# Altium schematic symbol library WCAP-ATG8.SchLib: 195 symbols (part 1 of 4)
Pins are listed as number, name and electrical type; pins without a type are passive.

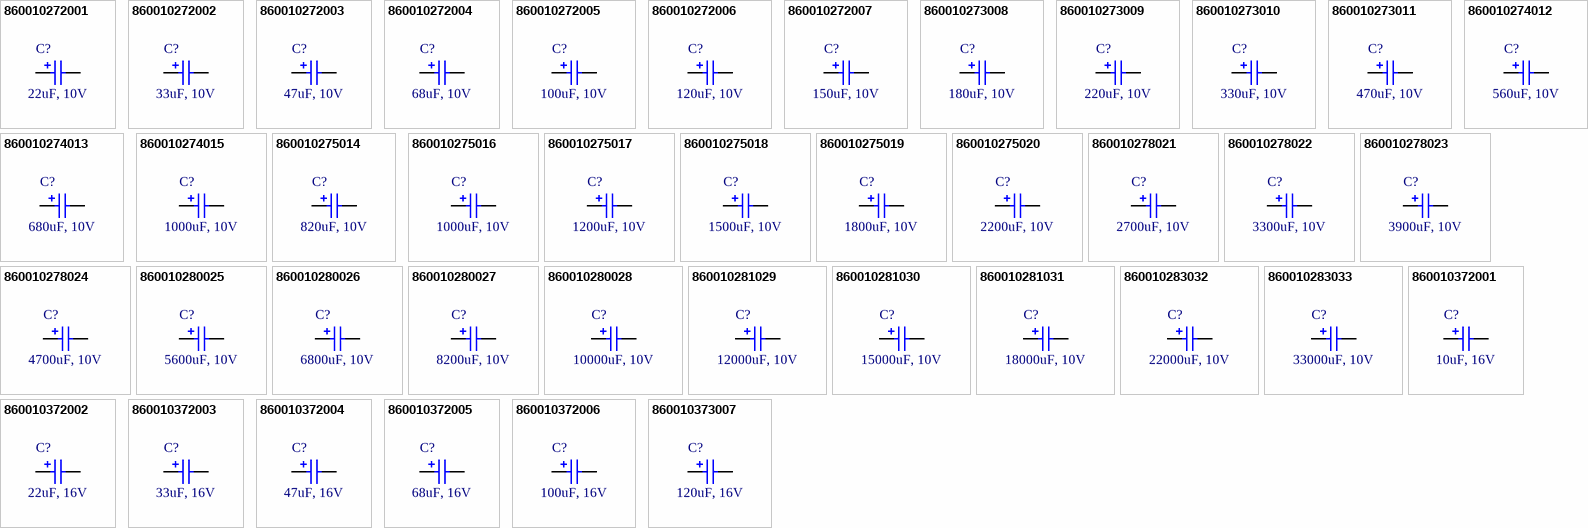
[diagram p0: symbols 860010272001 to 860010373007]

## 860010272001
designator C?, comment 22uF, 10V
WCAP-ATG8 Aluminum Electrolytic Capacitor, Radial, THT, D5xH11, 22uF, 10V; Manufacturer Part Number: 860010272001; Manufacturer: Wurth Elektronik; Ripple Current: 66mA; Rated Voltage: 10VDC; Technical Reference: ATBC110220M010DSPA3B000; Leakage Current: 3uA; Endurance: 2000h; Dissipation Factor: 19%; Capacitance Tolerance: +/-20%; ComponentLink2Description: Datasheet; Published Date: October 2020; Packaging: Ammo Pack; Operating Temperature: -40 to +85degC; Mounting Technology: THT; Height: 11mm; Diameter: 5mm; ComponentLink2URL: https://www.we-online.com/catalog/datasheet/860010272001.pdf; ComponentLink1URL: http://www.we-online.de; ComponentLink1Description: Manufacturer; Capacitance: 22uF
footprint WCAP-ATG8_D5H11
pins: 1 P, 2 N

## 860010272002
designator C?, comment 33uF, 10V
WCAP-ATG8 Aluminum Electrolytic Capacitor, Radial, THT, D5xH11, 33uF, 10V; Manufacturer Part Number: 860010272002; Manufacturer: Wurth Elektronik; Ripple Current: 88mA; Rated Voltage: 10VDC; Technical Reference: ATBC110330M010DSPA3B000; Leakage Current: 3.3uA; Endurance: 2000h; Dissipation Factor: 19%; Capacitance Tolerance: +/-20%; ComponentLink2Description: Datasheet; Published Date: October 2020; Packaging: Ammo Pack; Operating Temperature: -40 to +85degC; Mounting Technology: THT; Height: 11mm; Diameter: 5mm; ComponentLink2URL: https://www.we-online.com/catalog/datasheet/860010272002.pdf; ComponentLink1URL: http://www.we-online.de; ComponentLink1Description: Manufacturer; Capacitance: 33uF
footprint WCAP-ATG8_D5H11
pins: 1 P, 2 N

## 860010272003
designator C?, comment 47uF, 10V
WCAP-ATG8 Aluminum Electrolytic Capacitor, Radial, THT, D5xH11, 47uF, 10V; Manufacturer Part Number: 860010272003; Manufacturer: Wurth Elektronik; Ripple Current: 105mA; Rated Voltage: 10VDC; Technical Reference: ATBC110470M010DSPA3B000; Leakage Current: 4.7uA; Endurance: 2000h; Dissipation Factor: 19%; Capacitance Tolerance: +/-20%; ComponentLink2Description: Datasheet; Published Date: October 2020; Packaging: Ammo Pack; Operating Temperature: -40 to +85degC; Mounting Technology: THT; Height: 11mm; Diameter: 5mm; ComponentLink2URL: https://www.we-online.com/catalog/datasheet/860010272003.pdf; ComponentLink1URL: http://www.we-online.de; ComponentLink1Description: Manufacturer; Capacitance: 47uF
footprint WCAP-ATG8_D5H11
pins: 1 P, 2 N

## 860010272004
designator C?, comment 68uF, 10V
WCAP-ATG8 Aluminum Electrolytic Capacitor, Radial, THT, D5xH11, 68uF, 10V; Manufacturer Part Number: 860010272004; Manufacturer: Wurth Elektronik; Ripple Current: 132mA; Rated Voltage: 10VDC; Technical Reference: ATBC110680M010DSPA3B000; Leakage Current: 6.8uA; Endurance: 2000h; Dissipation Factor: 19%; Capacitance Tolerance: +/-20%; ComponentLink2Description: Datasheet; Published Date: October 2020; Packaging: Ammo Pack; Operating Temperature: -40 to +85degC; Mounting Technology: THT; Height: 11mm; Diameter: 5mm; ComponentLink2URL: https://www.we-online.com/catalog/datasheet/860010272004.pdf; ComponentLink1URL: http://www.we-online.de; ComponentLink1Description: Manufacturer; Capacitance: 68uF
footprint WCAP-ATG8_D5H11
pins: 1 P, 2 N

## 860010272005
designator C?, comment 100uF, 10V
WCAP-ATG8 Aluminum Electrolytic Capacitor, Radial, THT, D5xH11, 100uF, 10V; Manufacturer Part Number: 860010272005; Manufacturer: Wurth Elektronik; Ripple Current: 198mA; Rated Voltage: 10VDC; Technical Reference: ATBC110101M010DSPA3B000; Leakage Current: 10uA; Endurance: 2000h; Dissipation Factor: 19%; Capacitance Tolerance: +/-20%; ComponentLink2Description: Datasheet; Published Date: October 2020; Packaging: Ammo Pack; Operating Temperature: -40 to +85degC; Mounting Technology: THT; Height: 11mm; Diameter: 5mm; ComponentLink2URL: https://www.we-online.com/catalog/datasheet/860010272005.pdf; ComponentLink1URL: http://www.we-online.de; ComponentLink1Description: Manufacturer; Capacitance: 100uF
footprint WCAP-ATG8_D5H11
pins: 1 P, 2 N

## 860010272006
designator C?, comment 120uF, 10V
WCAP-ATG8 Aluminum Electrolytic Capacitor, Radial, THT, D5xH11, 120uF, 10V; Manufacturer Part Number: 860010272006; Manufacturer: Wurth Elektronik; Ripple Current: 209mA; Rated Voltage: 10VDC; Technical Reference: ATBC110121M010DSPA3B000; Leakage Current: 12uA; Endurance: 2000h; Dissipation Factor: 19%; Capacitance Tolerance: +/-20%; ComponentLink2Description: Datasheet; Published Date: October 2020; Packaging: Ammo Pack; Operating Temperature: -40 to +85degC; Mounting Technology: THT; Height: 11mm; Diameter: 5mm; ComponentLink2URL: https://www.we-online.com/catalog/datasheet/860010272006.pdf; ComponentLink1URL: http://www.we-online.de; ComponentLink1Description: Manufacturer; Capacitance: 120uF
footprint WCAP-ATG8_D5H11
pins: 1 P, 2 N

## 860010272007
designator C?, comment 150uF, 10V
WCAP-ATG8 Aluminum Electrolytic Capacitor, Radial, THT, D5xH11, 150uF, 10V; Manufacturer Part Number: 860010272007; Manufacturer: Wurth Elektronik; Ripple Current: 231mA; Rated Voltage: 10VDC; Technical Reference: ATBC110151M010DSPA3B000; Leakage Current: 15uA; Endurance: 2000h; Dissipation Factor: 19%; Capacitance Tolerance: +/-20%; ComponentLink2Description: Datasheet; Published Date: October 2020; Packaging: Ammo Pack; Operating Temperature: -40 to +85degC; Mounting Technology: THT; Height: 11mm; Diameter: 5mm; ComponentLink2URL: https://www.we-online.com/catalog/datasheet/860010272007.pdf; ComponentLink1URL: http://www.we-online.de; ComponentLink1Description: Manufacturer; Capacitance: 150uF
footprint WCAP-ATG8_D5H11
pins: 1 P, 2 N

## 860010273008
designator C?, comment 180uF, 10V
WCAP-ATG8 Aluminum Electrolytic Capacitor, Radial, THT, D6.3xH11, 180uF, 10V; Manufacturer Part Number: 860010273008; Manufacturer: Wurth Elektronik; Ripple Current: 253mA; Rated Voltage: 10VDC; Technical Reference: ATBD110181M010DSPA4B000; Leakage Current: 18uA; Endurance: 2000h; Dissipation Factor: 19%; Capacitance Tolerance: +/-20%; ComponentLink2Description: Datasheet; Published Date: October 2020; Packaging: Ammo Pack; Operating Temperature: -40 to +85degC; Mounting Technology: THT; Height: 11mm; Diameter: 6.3mm; ComponentLink2URL: https://www.we-online.com/catalog/datasheet/860010273008.pdf; ComponentLink1URL: http://www.we-online.de; ComponentLink1Description: Manufacturer; Capacitance: 180uF
footprint WCAP-ATG8_D6.3H11
pins: 1 P, 2 N

## 860010273009
designator C?, comment 220uF, 10V
WCAP-ATG8 Aluminum Electrolytic Capacitor, Radial, THT, D6.3xH11, 220uF, 10V; Manufacturer Part Number: 860010273009; Manufacturer: Wurth Elektronik; Ripple Current: 294mA; Rated Voltage: 10VDC; Technical Reference: ATBD110221M010DSPA4B000; Leakage Current: 22uA; Endurance: 2000h; Dissipation Factor: 19%; Capacitance Tolerance: +/-20%; ComponentLink2Description: Datasheet; Published Date: October 2020; Packaging: Ammo Pack; Operating Temperature: -40 to +85degC; Mounting Technology: THT; Height: 11mm; Diameter: 6.3mm; ComponentLink2URL: https://www.we-online.com/catalog/datasheet/860010273009.pdf; ComponentLink1URL: http://www.we-online.de; ComponentLink1Description: Manufacturer; Capacitance: 220uF
footprint WCAP-ATG8_D6.3H11
pins: 1 P, 2 N

## 860010273010
designator C?, comment 330uF, 10V
WCAP-ATG8 Aluminum Electrolytic Capacitor, Radial, THT, D6.3xH11, 330uF, 10V; Manufacturer Part Number: 860010273010; Manufacturer: Wurth Elektronik; Ripple Current: 363mA; Rated Voltage: 10VDC; Technical Reference: ATBD110331M010DSPA4B000; Leakage Current: 33uA; Endurance: 2000h; Dissipation Factor: 19%; Capacitance Tolerance: +/-20%; ComponentLink2Description: Datasheet; Published Date: October 2020; Packaging: Ammo Pack; Operating Temperature: -40 to +85degC; Mounting Technology: THT; Height: 11mm; Diameter: 6.3mm; ComponentLink2URL: https://www.we-online.com/catalog/datasheet/860010273010.pdf; ComponentLink1URL: http://www.we-online.de; ComponentLink1Description: Manufacturer; Capacitance: 330uF
footprint WCAP-ATG8_D6.3H11
pins: 1 P, 2 N

## 860010273011
designator C?, comment 470uF, 10V
WCAP-ATG8 Aluminum Electrolytic Capacitor, Radial, THT, D6.3xH11, 470uF, 10V; Manufacturer Part Number: 860010273011; Manufacturer: Wurth Elektronik; Ripple Current: 418mA; Rated Voltage: 10VDC; Technical Reference: ATBD110471M010DSPA4B000; Leakage Current: 47uA; Endurance: 2000h; Dissipation Factor: 19%; Capacitance Tolerance: +/-20%; ComponentLink2Description: Datasheet; Published Date: October 2020; Packaging: Ammo Pack; Operating Temperature: -40 to +85degC; Mounting Technology: THT; Height: 11mm; Diameter: 6.3mm; ComponentLink2URL: https://www.we-online.com/catalog/datasheet/860010273011.pdf; ComponentLink1URL: http://www.we-online.de; ComponentLink1Description: Manufacturer; Capacitance: 470uF
footprint WCAP-ATG8_D6.3H11
pins: 1 P, 2 N

## 860010274012
designator C?, comment 560uF, 10V
WCAP-ATG8 Aluminum Electrolytic Capacitor, Radial, THT, D8xH11.5, 560uF, 10V; Manufacturer Part Number: 860010274012; Manufacturer: Wurth Elektronik; Ripple Current: 506mA; Rated Voltage: 10VDC; Technical Reference: ATBE115561M010DSPA7B000; Leakage Current: 56uA; Endurance: 2000h; Dissipation Factor: 19%; Capacitance Tolerance: +/-20%; ComponentLink2Description: Datasheet; Published Date: October 2020; Packaging: Ammo Pack; Operating Temperature: -40 to +85degC; Mounting Technology: THT; Height: 11.5mm; Diameter: 8mm; ComponentLink2URL: https://www.we-online.com/catalog/datasheet/860010274012.pdf; ComponentLink1URL: http://www.we-online.de; ComponentLink1Description: Manufacturer; Capacitance: 560uF
footprint WCAP-ATG8_D8H11.5
pins: 1 P, 2 N

## 860010274013
designator C?, comment 680uF, 10V
WCAP-ATG8 Aluminum Electrolytic Capacitor, Radial, THT, D8xH11.5, 680uF, 10V; Manufacturer Part Number: 860010274013; Manufacturer: Wurth Elektronik; Ripple Current: 572mA; Rated Voltage: 10VDC; Technical Reference: ATBE115681M010DSPA7B000; Leakage Current: 68uA; Endurance: 2000h; Dissipation Factor: 19%; Capacitance Tolerance: +/-20%; ComponentLink2Description: Datasheet; Published Date: October 2020; Packaging: Ammo Pack; Operating Temperature: -40 to +85degC; Mounting Technology: THT; Height: 11.5mm; Diameter: 8mm; ComponentLink2URL: https://www.we-online.com/catalog/datasheet/860010274013.pdf; ComponentLink1URL: http://www.we-online.de; ComponentLink1Description: Manufacturer; Capacitance: 680uF
footprint WCAP-ATG8_D8H11.5
pins: 1 P, 2 N

## 860010274015
designator C?, comment 1000uF, 10V
WCAP-ATG8 Aluminum Electrolytic Capacitor, Radial, THT, D8xH16, 1000uF, 10V; Manufacturer Part Number: 860010274015; Manufacturer: Wurth Elektronik; Ripple Current: 725mA; Rated Voltage: 10VDC; Technical Reference: ATBE160102M010DSPA7B000; Leakage Current: 100uA; Endurance: 2000h; Dissipation Factor: 19%; Capacitance Tolerance: +/-20%; ComponentLink2Description: Datasheet; Published Date: October 2020; Packaging: Ammo Pack; Operating Temperature: -40 to +85degC; Mounting Technology: THT; Height: 16mm; Diameter: 8mm; ComponentLink2URL: https://www.we-online.com/catalog/datasheet/860010274015.pdf; ComponentLink1URL: http://www.we-online.de; ComponentLink1Description: Manufacturer; Capacitance: 1000uF
footprint WCAP-ATG8_D8H16
pins: 1 P, 2 N

## 860010275014
designator C?, comment 820uF, 10V
WCAP-ATG8 Aluminum Electrolytic Capacitor, Radial, THT, D10xH12.5, 820uF, 10V; Manufacturer Part Number: 860010275014; Manufacturer: Wurth Elektronik; Ripple Current: 671mA; Rated Voltage: 10VDC; Technical Reference: ATBF125821M010DSPA9B000; Leakage Current: 82uA; Endurance: 2000h; Dissipation Factor: 19%; Capacitance Tolerance: +/-20%; ComponentLink2Description: Datasheet; Published Date: October 2020; Packaging: Ammo Pack; Operating Temperature: -40 to +85degC; Mounting Technology: THT; Height: 12.5mm; Diameter: 10mm; ComponentLink2URL: https://www.we-online.com/catalog/datasheet/860010275014.pdf; ComponentLink1URL: http://www.we-online.de; ComponentLink1Description: Manufacturer; Capacitance: 820uF
footprint WCAP-ATG8_D10H12.5
pins: 1 P, 2 N

## 860010275016
designator C?, comment 1000uF, 10V
WCAP-ATG8 Aluminum Electrolytic Capacitor, Radial, THT, D10xH12.5, 1000uF, 10V; Manufacturer Part Number: 860010275016; Manufacturer: Wurth Elektronik; Ripple Current: 726mA; Rated Voltage: 10VDC; Technical Reference: ATBF125102M010DSPA9B000; Leakage Current: 100uA; Endurance: 2000h; Dissipation Factor: 19%; Capacitance Tolerance: +/-20%; ComponentLink2Description: Datasheet; Published Date: October 2020; Packaging: Ammo Pack; Operating Temperature: -40 to +85degC; Mounting Technology: THT; Height: 12.5mm; Diameter: 10mm; ComponentLink2URL: https://www.we-online.com/catalog/datasheet/860010275016.pdf; ComponentLink1URL: http://www.we-online.de; ComponentLink1Description: Manufacturer; Capacitance: 1000uF
footprint WCAP-ATG8_D10H12.5
pins: 1 P, 2 N

## 860010275017
designator C?, comment 1200uF, 10V
WCAP-ATG8 Aluminum Electrolytic Capacitor, Radial, THT, D10xH16, 1200uF, 10V; Manufacturer Part Number: 860010275017; Manufacturer: Wurth Elektronik; Ripple Current: 902mA; Rated Voltage: 10VDC; Technical Reference: ATBF160122M010DSPAAB000; Leakage Current: 120uA; Endurance: 2000h; Dissipation Factor: 19%; Capacitance Tolerance: +/-20%; ComponentLink2Description: Datasheet; Published Date: October 2020; Packaging: Ammo Pack; Operating Temperature: -40 to +85degC; Mounting Technology: THT; Height: 16mm; Diameter: 10mm; ComponentLink2URL: https://www.we-online.com/catalog/datasheet/860010275017.pdf; ComponentLink1URL: http://www.we-online.de; ComponentLink1Description: Manufacturer; Capacitance: 1200uF
footprint WCAP-ATG8_D10H16
pins: 1 P, 2 N

## 860010275018
designator C?, comment 1500uF, 10V
WCAP-ATG8 Aluminum Electrolytic Capacitor, Radial, THT, D10xH16, 1500uF, 10V; Manufacturer Part Number: 860010275018; Manufacturer: Wurth Elektronik; Ripple Current: 1001mA; Rated Voltage: 10VDC; Technical Reference: ATBF160152M010DSPAAB000; Leakage Current: 150uA; Endurance: 2000h; Dissipation Factor: 19%; Capacitance Tolerance: +/-20%; ComponentLink2Description: Datasheet; Published Date: October 2020; Packaging: Ammo Pack; Operating Temperature: -40 to +85degC; Mounting Technology: THT; Height: 16mm; Diameter: 10mm; ComponentLink2URL: https://www.we-online.com/catalog/datasheet/860010275018.pdf; ComponentLink1URL: http://www.we-online.de; ComponentLink1Description: Manufacturer; Capacitance: 1500uF
footprint WCAP-ATG8_D10H16
pins: 1 P, 2 N

## 860010275019
designator C?, comment 1800uF, 10V
WCAP-ATG8 Aluminum Electrolytic Capacitor, Radial, THT, D10xH20, 1800uF, 10V; Manufacturer Part Number: 860010275019; Manufacturer: Wurth Elektronik; Ripple Current: 1089mA; Rated Voltage: 10VDC; Technical Reference: ATBF200182M010DSPAAB000; Leakage Current: 180uA; Endurance: 2000h; Dissipation Factor: 19%; Capacitance Tolerance: +/-20%; ComponentLink2Description: Datasheet; Published Date: October 2020; Packaging: Ammo Pack; Operating Temperature: -40 to +85degC; Mounting Technology: THT; Height: 20mm; Diameter: 10mm; ComponentLink2URL: https://www.we-online.com/catalog/datasheet/860010275019.pdf; ComponentLink1URL: http://www.we-online.de; ComponentLink1Description: Manufacturer; Capacitance: 1800uF
footprint WCAP-ATG8_D10H20
pins: 1 P, 2 N

## 860010275020
designator C?, comment 2200uF, 10V
WCAP-ATG8 Aluminum Electrolytic Capacitor, Radial, THT, D10xH20, 2200uF, 10V; Manufacturer Part Number: 860010275020; Manufacturer: Wurth Elektronik; Ripple Current: 1210mA; Rated Voltage: 10VDC; Technical Reference: ATBF200222M010DSPAAB000; Leakage Current: 220uA; Endurance: 2000h; Dissipation Factor: 19%; Capacitance Tolerance: +/-20%; ComponentLink2Description: Datasheet; Published Date: October 2020; Packaging: Ammo Pack; Operating Temperature: -40 to +85degC; Mounting Technology: THT; Height: 20mm; Diameter: 10mm; ComponentLink2URL: https://www.we-online.com/catalog/datasheet/860010275020.pdf; ComponentLink1URL: http://www.we-online.de; ComponentLink1Description: Manufacturer; Capacitance: 2200uF
footprint WCAP-ATG8_D10H20
pins: 1 P, 2 N

## 860010278021
designator C?, comment 2700uF, 10V
WCAP-ATG8 Aluminum Electrolytic Capacitor, Radial, THT, D13xH20, 2700uF, 10V; Manufacturer Part Number: 860010278021; Manufacturer: Wurth Elektronik; Ripple Current: 1419mA; Rated Voltage: 10VDC; Technical Reference: ATBI200272M010DSPACB000; Leakage Current: 270uA; Endurance: 2000h; Dissipation Factor: 19%; Capacitance Tolerance: +/-20%; ComponentLink2Description: Datasheet; Published Date: October 2020; Packaging: Ammo Pack; Operating Temperature: -40 to +85degC; Mounting Technology: THT; Height: 20mm; Diameter: 13mm; ComponentLink2URL: https://www.we-online.com/catalog/datasheet/860010278021.pdf; ComponentLink1URL: http://www.we-online.de; ComponentLink1Description: Manufacturer; Capacitance: 2700uF
footprint WCAP-ATG8_D13H20
pins: 1 P, 2 N

## 860010278022
designator C?, comment 3300uF, 10V
WCAP-ATG8 Aluminum Electrolytic Capacitor, Radial, THT, D13xH20, 3300uF, 10V; Manufacturer Part Number: 860010278022; Manufacturer: Wurth Elektronik; Ripple Current: 1540mA; Rated Voltage: 10VDC; Technical Reference: ATBI200332M010DSPACB000; Leakage Current: 330uA; Endurance: 2000h; Dissipation Factor: 19%; Capacitance Tolerance: +/-20%; ComponentLink2Description: Datasheet; Published Date: October 2020; Packaging: Ammo Pack; Operating Temperature: -40 to +85degC; Mounting Technology: THT; Height: 20mm; Diameter: 13mm; ComponentLink2URL: https://www.we-online.com/catalog/datasheet/860010278022.pdf; ComponentLink1URL: http://www.we-online.de; ComponentLink1Description: Manufacturer; Capacitance: 3300uF
footprint WCAP-ATG8_D13H20
pins: 1 P, 2 N

## 860010278023
designator C?, comment 3900uF, 10V
WCAP-ATG8 Aluminum Electrolytic Capacitor, Radial, THT, D13xH20, 3900uF, 10V; Manufacturer Part Number: 860010278023; Manufacturer: Wurth Elektronik; Ripple Current: 1760mA; Rated Voltage: 10VDC; Technical Reference: ATBI200392M010DSPACB000; Leakage Current: 390uA; Endurance: 2000h; Dissipation Factor: 19%; Capacitance Tolerance: +/-20%; ComponentLink2Description: Datasheet; Published Date: October 2020; Packaging: Ammo Pack; Operating Temperature: -40 to +85degC; Mounting Technology: THT; Height: 20mm; Diameter: 13mm; ComponentLink2URL: https://www.we-online.com/catalog/datasheet/860010278023.pdf; ComponentLink1URL: http://www.we-online.de; ComponentLink1Description: Manufacturer; Capacitance: 3900uF
footprint WCAP-ATG8_D13H20
pins: 1 P, 2 N

## 860010278024
designator C?, comment 4700uF, 10V
WCAP-ATG8 Aluminum Electrolytic Capacitor, Radial, THT, D13xH25, 4700uF, 10V; Manufacturer Part Number: 860010278024; Manufacturer: Wurth Elektronik; Ripple Current: 1980mA; Rated Voltage: 10VDC; Technical Reference: ATBI250472M010DSPACB000; Leakage Current: 470uA; Endurance: 2000h; Dissipation Factor: 19%; Capacitance Tolerance: +/-20%; ComponentLink2Description: Datasheet; Published Date: October 2020; Packaging: Ammo Pack; Operating Temperature: -40 to +85degC; Mounting Technology: THT; Height: 25mm; Diameter: 13mm; ComponentLink2URL: https://www.we-online.com/catalog/datasheet/860010278024.pdf; ComponentLink1URL: http://www.we-online.de; ComponentLink1Description: Manufacturer; Capacitance: 4700uF
footprint WCAP-ATG8_D13H25
pins: 1 P, 2 N

## 860010280025
designator C?, comment 5600uF, 10V
WCAP-ATG8 Aluminum Electrolytic Capacitor, Radial, THT, D16xH25, 5600uF, 10V; Manufacturer Part Number: 860010280025; Manufacturer: Wurth Elektronik; Ripple Current: 2189mA; Rated Voltage: 10VDC; Technical Reference: ATBK250562M010DSPAEB000; Leakage Current: 560uA; Endurance: 2000h; Dissipation Factor: 19%; Capacitance Tolerance: +/-20%; ComponentLink2Description: Datasheet; Published Date: October 2020; Packaging: Ammo Pack; Operating Temperature: -40 to +85degC; Mounting Technology: THT; Height: 25mm; Diameter: 16mm; ComponentLink2URL: https://www.we-online.com/catalog/datasheet/860010280025.pdf; ComponentLink1URL: http://www.we-online.de; ComponentLink1Description: Manufacturer; Capacitance: 5600uF
footprint WCAP-ATG8_D16H25
pins: 1 P, 2 N

## 860010280026
designator C?, comment 6800uF, 10V
WCAP-ATG8 Aluminum Electrolytic Capacitor, Radial, THT, D16xH25, 6800uF, 10V; Manufacturer Part Number: 860010280026; Manufacturer: Wurth Elektronik; Ripple Current: 2475mA; Rated Voltage: 10VDC; Technical Reference: ATBK250682M010DSPAEB000; Leakage Current: 680uA; Endurance: 2000h; Dissipation Factor: 19%; Capacitance Tolerance: +/-20%; ComponentLink2Description: Datasheet; Published Date: October 2020; Packaging: Ammo Pack; Operating Temperature: -40 to +85degC; Mounting Technology: THT; Height: 25mm; Diameter: 16mm; ComponentLink2URL: https://www.we-online.com/catalog/datasheet/860010280026.pdf; ComponentLink1URL: http://www.we-online.de; ComponentLink1Description: Manufacturer; Capacitance: 6800uF
footprint WCAP-ATG8_D16H25
pins: 1 P, 2 N

## 860010280027
designator C?, comment 8200uF, 10V
WCAP-ATG8 Aluminum Electrolytic Capacitor, Radial, THT, D16xH31.5, 8200uF, 10V; Manufacturer Part Number: 860010280027; Manufacturer: Wurth Elektronik; Ripple Current: 2541mA; Rated Voltage: 10VDC; Technical Reference: ATBK315822M010DSPADB000; Leakage Current: 820uA; Endurance: 2000h; Dissipation Factor: 19%; Capacitance Tolerance: +/-20%; ComponentLink2Description: Datasheet; Published Date: October 2020; Packaging: Ammo Pack; Operating Temperature: -40 to +85degC; Mounting Technology: THT; Height: 31.5mm; Diameter: 16mm; ComponentLink2URL: https://www.we-online.com/catalog/datasheet/860010280027.pdf; ComponentLink1URL: http://www.we-online.de; ComponentLink1Description: Manufacturer; Capacitance: 8200uF
footprint WCAP-ATG8_D16H31.5
pins: 1 P, 2 N

## 860010280028
designator C?, comment 10000uF, 10V
WCAP-ATG8 Aluminum Electrolytic Capacitor, Radial, THT, D16xH35.5, 10000uF, 10V; Manufacturer Part Number: 860010280028; Manufacturer: Wurth Elektronik; Ripple Current: 2640mA; Rated Voltage: 10VDC; Technical Reference: ATBK355103M010DSPADB000; Leakage Current: 1000uA; Endurance: 2000h; Dissipation Factor: 19%; Capacitance Tolerance: +/-20%; ComponentLink2Description: Datasheet; Published Date: October 2020; Packaging: Ammo Pack; Operating Temperature: -40 to +85degC; Mounting Technology: THT; Height: 35.5mm; Diameter: 16mm; ComponentLink2URL: https://www.we-online.com/catalog/datasheet/860010280028.pdf; ComponentLink1URL: http://www.we-online.de; ComponentLink1Description: Manufacturer; Capacitance: 10000uF
footprint WCAP-ATG8_D16H35.5
pins: 1 P, 2 N

## 860010281029
designator C?, comment 12000uF, 10V
WCAP-ATG8 Aluminum Electrolytic Capacitor, Radial, THT, D18xH35.5, 12000uF, 10V; Manufacturer Part Number: 860010281029; Manufacturer: Wurth Elektronik; Ripple Current: 3025mA; Rated Voltage: 10VDC; Technical Reference: ATBL355123M010DSPAEB000; Leakage Current: 1200uA; Endurance: 2000h; Dissipation Factor: 19%; Capacitance Tolerance: +/-20%; ComponentLink2Description: Datasheet; Published Date: October 2020; Packaging: Ammo Pack; Operating Temperature: -40 to +85degC; Mounting Technology: THT; Height: 35.5mm; Diameter: 18mm; ComponentLink2URL: https://www.we-online.com/catalog/datasheet/860010281029.pdf; ComponentLink1URL: http://www.we-online.de; ComponentLink1Description: Manufacturer; Capacitance: 12000uF
footprint WCAP-ATG8_D18H35.5
pins: 1 P, 2 N

## 860010281030
designator C?, comment 15000uF, 10V
WCAP-ATG8 Aluminum Electrolytic Capacitor, Radial, THT, D18xH35.5, 15000uF, 10V; Manufacturer Part Number: 860010281030; Manufacturer: Wurth Elektronik; Ripple Current: 3310mA; Rated Voltage: 10VDC; Technical Reference: ATBL355153M010DSPAEB000; Leakage Current: 1500uA; Endurance: 2000h; Dissipation Factor: 19%; Capacitance Tolerance: +/-20%; ComponentLink2Description: Datasheet; Published Date: October 2020; Packaging: Ammo Pack; Operating Temperature: -40 to +85degC; Mounting Technology: THT; Height: 35.5mm; Diameter: 18mm; ComponentLink2URL: https://www.we-online.com/catalog/datasheet/860010281030.pdf; ComponentLink1URL: http://www.we-online.de; ComponentLink1Description: Manufacturer; Capacitance: 15000uF
footprint WCAP-ATG8_D18H35.5
pins: 1 P, 2 N

## 860010281031
designator C?, comment 18000uF, 10V
WCAP-ATG8 Aluminum Electrolytic Capacitor, Radial, THT, D18xH41, 18000uF, 10V; Manufacturer Part Number: 860010281031; Manufacturer: Wurth Elektronik; Ripple Current: 3410mA; Rated Voltage: 10VDC; Technical Reference: ATBL410183M010DSPS1B000; Leakage Current: 1800uA; Endurance: 2000h; Dissipation Factor: 19%; Capacitance Tolerance: +/-20%; ComponentLink2Description: Datasheet; Published Date: October 2020; Packaging: Ammo Pack; Operating Temperature: -40 to +85degC; Mounting Technology: THT; Height: 41mm; Diameter: 18mm; ComponentLink2URL: https://www.we-online.com/catalog/datasheet/860010281031.pdf; ComponentLink1URL: http://www.we-online.de; ComponentLink1Description: Manufacturer; Capacitance: 18000uF
footprint WCAP-ATG8_D18H41
pins: 1 P, 2 N

## 860010283032
designator C?, comment 22000uF, 10V
WCAP-ATG8 Aluminum Electrolytic Capacitor, Radial, THT, D22xH41, 22000uF, 10V; Manufacturer Part Number: 860010283032; Manufacturer: Wurth Elektronik; Ripple Current: 4092mA; Rated Voltage: 10VDC; Technical Reference: ATBN410223M010DSPS2B000; Leakage Current: 2200uA; Endurance: 2000h; Dissipation Factor: 19%; Capacitance Tolerance: +/-20%; ComponentLink2Description: Datasheet; Published Date: October 2020; Packaging: Ammo Pack; Operating Temperature: -40 to +85degC; Mounting Technology: THT; Height: 41mm; Diameter: 22mm; ComponentLink2URL: https://www.we-online.com/catalog/datasheet/860010283032.pdf; ComponentLink1URL: http://www.we-online.de; ComponentLink1Description: Manufacturer; Capacitance: 22000uF
footprint WCAP-ATG8_D22H41
pins: 1 P, 2 N

## 860010283033
designator C?, comment 33000uF, 10V
WCAP-ATG8 Aluminum Electrolytic Capacitor, Radial, THT, D22xH51, 33000uF, 10V; Manufacturer Part Number: 860010283033; Manufacturer: Wurth Elektronik; Ripple Current: 4620mA; Rated Voltage: 10VDC; Technical Reference: ATBN510333M010DSPS2B000; Leakage Current: 3300uA; Endurance: 2000h; Dissipation Factor: 19%; Capacitance Tolerance: +/-20%; ComponentLink2Description: Datasheet; Published Date: October 2020; Packaging: Ammo Pack; Operating Temperature: -40 to +85degC; Mounting Technology: THT; Height: 51mm; Diameter: 22mm; ComponentLink2URL: https://www.we-online.com/catalog/datasheet/860010283033.pdf; ComponentLink1URL: http://www.we-online.de; ComponentLink1Description: Manufacturer; Capacitance: 33000uF
footprint WCAP-ATG8_D22H51
pins: 1 P, 2 N

## 860010372001
designator C?, comment 10uF, 16V
WCAP-ATG8 Aluminum Electrolytic Capacitor, Radial, THT, D5xH11, 10uF, 16V; Manufacturer Part Number: 860010372001; Manufacturer: Wurth Elektronik; Ripple Current: 44mA; Rated Voltage: 16VDC; Technical Reference: ATBC110100M016DSPA3B000; Leakage Current: 3uA; Endurance: 2000h; Dissipation Factor: 16%; Capacitance Tolerance: +/-20%; ComponentLink2Description: Datasheet; Published Date: October 2020; Packaging: Ammo Pack; Operating Temperature: -40 to +85degC; Mounting Technology: THT; Height: 11mm; Diameter: 5mm; ComponentLink2URL: https://www.we-online.com/catalog/datasheet/860010372001.pdf; ComponentLink1URL: http://www.we-online.de; ComponentLink1Description: Manufacturer; Capacitance: 10uF
footprint WCAP-ATG8_D5H11
pins: 1 P, 2 N

## 860010372002
designator C?, comment 22uF, 16V
WCAP-ATG8 Aluminum Electrolytic Capacitor, Radial, THT, D5xH11, 22uF, 16V; Manufacturer Part Number: 860010372002; Manufacturer: Wurth Elektronik; Ripple Current: 83mA; Rated Voltage: 16VDC; Technical Reference: ATBC110220M016DSPA3B000; Leakage Current: 3.52uA; Endurance: 2000h; Dissipation Factor: 16%; Capacitance Tolerance: +/-20%; ComponentLink2Description: Datasheet; Published Date: October 2020; Packaging: Ammo Pack; Operating Temperature: -40 to +85degC; Mounting Technology: THT; Height: 11mm; Diameter: 5mm; ComponentLink2URL: https://www.we-online.com/catalog/datasheet/860010372002.pdf; ComponentLink1URL: http://www.we-online.de; ComponentLink1Description: Manufacturer; Capacitance: 22uF
footprint WCAP-ATG8_D5H11
pins: 1 P, 2 N

## 860010372003
designator C?, comment 33uF, 16V
WCAP-ATG8 Aluminum Electrolytic Capacitor, Radial, THT, D5xH11, 33uF, 16V; Manufacturer Part Number: 860010372003; Manufacturer: Wurth Elektronik; Ripple Current: 84mA; Rated Voltage: 16VDC; Technical Reference: ATBC110330M016DSPA3B000; Leakage Current: 5.28uA; Endurance: 2000h; Dissipation Factor: 16%; Capacitance Tolerance: +/-20%; ComponentLink2Description: Datasheet; Published Date: October 2020; Packaging: Ammo Pack; Operating Temperature: -40 to +85degC; Mounting Technology: THT; Height: 11mm; Diameter: 5mm; ComponentLink2URL: https://www.we-online.com/catalog/datasheet/860010372003.pdf; ComponentLink1URL: http://www.we-online.de; ComponentLink1Description: Manufacturer; Capacitance: 33uF
footprint WCAP-ATG8_D5H11
pins: 1 P, 2 N

## 860010372004
designator C?, comment 47uF, 16V
WCAP-ATG8 Aluminum Electrolytic Capacitor, Radial, THT, D5xH11, 47uF, 16V; Manufacturer Part Number: 860010372004; Manufacturer: Wurth Elektronik; Ripple Current: 132mA; Rated Voltage: 16VDC; Technical Reference: ATBC110470M016DSPA3B000; Leakage Current: 7.52uA; Endurance: 2000h; Dissipation Factor: 16%; Capacitance Tolerance: +/-20%; ComponentLink2Description: Datasheet; Published Date: October 2020; Packaging: Ammo Pack; Operating Temperature: -40 to +85degC; Mounting Technology: THT; Height: 11mm; Diameter: 5mm; ComponentLink2URL: https://www.we-online.com/catalog/datasheet/860010372004.pdf; ComponentLink1URL: http://www.we-online.de; ComponentLink1Description: Manufacturer; Capacitance: 47uF
footprint WCAP-ATG8_D5H11
pins: 1 P, 2 N

## 860010372005
designator C?, comment 68uF, 16V
WCAP-ATG8 Aluminum Electrolytic Capacitor, Radial, THT, D5xH11, 68uF, 16V; Manufacturer Part Number: 860010372005; Manufacturer: Wurth Elektronik; Ripple Current: 149mA; Rated Voltage: 16VDC; Technical Reference: ATBC110680M016DSPA3B000; Leakage Current: 10.88uA; Endurance: 2000h; Dissipation Factor: 16%; Capacitance Tolerance: +/-20%; ComponentLink2Description: Datasheet; Published Date: October 2020; Packaging: Ammo Pack; Operating Temperature: -40 to +85degC; Mounting Technology: THT; Height: 11mm; Diameter: 5mm; ComponentLink2URL: https://www.we-online.com/catalog/datasheet/860010372005.pdf; ComponentLink1URL: http://www.we-online.de; ComponentLink1Description: Manufacturer; Capacitance: 68uF
footprint WCAP-ATG8_D5H11
pins: 1 P, 2 N

## 860010372006
designator C?, comment 100uF, 16V
WCAP-ATG8 Aluminum Electrolytic Capacitor, Radial, THT, D5xH11, 100uF, 16V; Manufacturer Part Number: 860010372006; Manufacturer: Wurth Elektronik; Ripple Current: 176mA; Rated Voltage: 16VDC; Technical Reference: ATBC110101M016DSPA3B000; Leakage Current: 16uA; Endurance: 2000h; Dissipation Factor: 16%; Capacitance Tolerance: +/-20%; ComponentLink2Description: Datasheet; Published Date: October 2020; Packaging: Ammo Pack; Operating Temperature: -40 to +85degC; Mounting Technology: THT; Height: 11mm; Diameter: 5mm; ComponentLink2URL: https://www.we-online.com/catalog/datasheet/860010372006.pdf; ComponentLink1URL: http://www.we-online.de; ComponentLink1Description: Manufacturer; Capacitance: 100uF
footprint WCAP-ATG8_D5H11
pins: 1 P, 2 N

## 860010373007
designator C?, comment 120uF, 16V
WCAP-ATG8 Aluminum Electrolytic Capacitor, Radial, THT, D6.3xH11, 120uF, 16V; Manufacturer Part Number: 860010373007; Manufacturer: Wurth Elektronik; Ripple Current: 231mA; Rated Voltage: 16VDC; Technical Reference: ATBD110121M016DSPA4B000; Leakage Current: 19.2uA; Endurance: 2000h; Dissipation Factor: 16%; Capacitance Tolerance: +/-20%; ComponentLink2Description: Datasheet; Published Date: October 2020; Packaging: Ammo Pack; Operating Temperature: -40 to +85degC; Mounting Technology: THT; Height: 11mm; Diameter: 6.3mm; ComponentLink2URL: https://www.we-online.com/catalog/datasheet/860010373007.pdf; ComponentLink1URL: http://www.we-online.de; ComponentLink1Description: Manufacturer; Capacitance: 120uF
footprint WCAP-ATG8_D6.3H11
pins: 1 P, 2 N

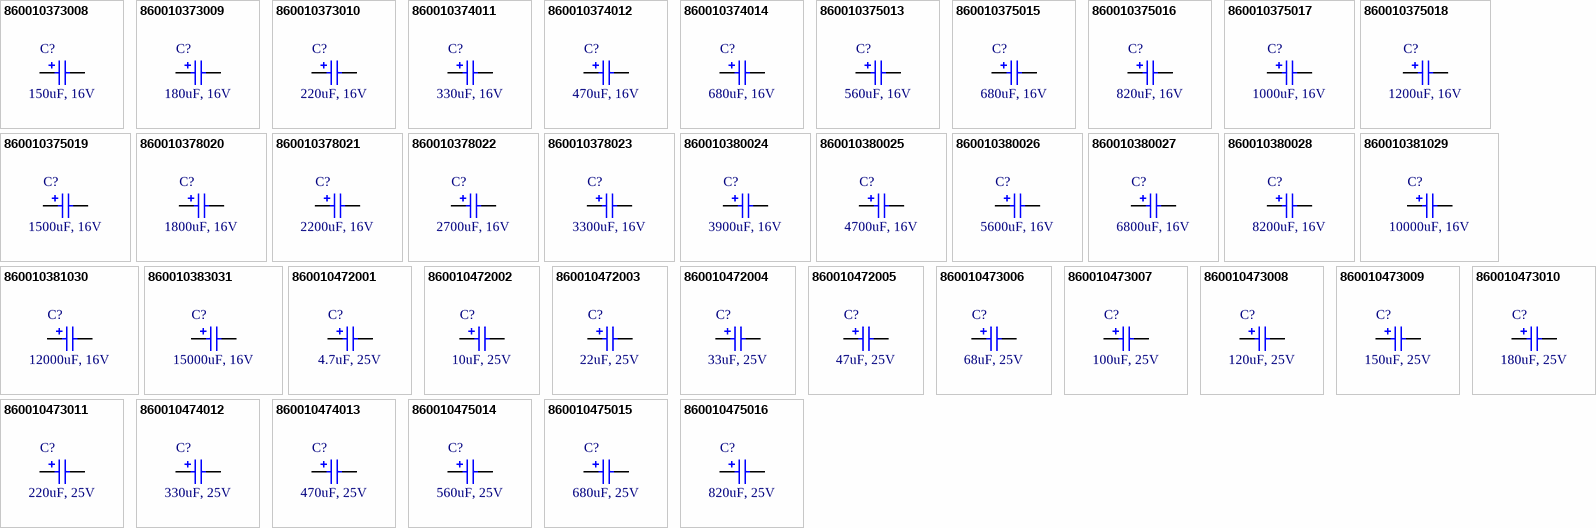
[diagram p1: symbols 860010373008 to 860010475016]

## 860010373008
designator C?, comment 150uF, 16V
WCAP-ATG8 Aluminum Electrolytic Capacitor, Radial, THT, D6.3xH11, 150uF, 16V; Manufacturer Part Number: 860010373008; Manufacturer: Wurth Elektronik; Ripple Current: 253mA; Rated Voltage: 16VDC; Technical Reference: ATBD110151M016DSPA4B000; Leakage Current: 24uA; Endurance: 2000h; Dissipation Factor: 16%; Capacitance Tolerance: +/-20%; ComponentLink2Description: Datasheet; Published Date: October 2020; Packaging: Ammo Pack; Operating Temperature: -40 to +85degC; Mounting Technology: THT; Height: 11mm; Diameter: 6.3mm; ComponentLink2URL: https://www.we-online.com/catalog/datasheet/860010373008.pdf; ComponentLink1URL: http://www.we-online.de; ComponentLink1Description: Manufacturer; Capacitance: 150uF
footprint WCAP-ATG8_D6.3H11
pins: 1 P, 2 N

## 860010373009
designator C?, comment 180uF, 16V
WCAP-ATG8 Aluminum Electrolytic Capacitor, Radial, THT, D6.3xH11, 180uF, 16V; Manufacturer Part Number: 860010373009; Manufacturer: Wurth Elektronik; Ripple Current: 275mA; Rated Voltage: 16VDC; Technical Reference: ATBD110181M016DSPA4B000; Leakage Current: 28.8uA; Endurance: 2000h; Dissipation Factor: 16%; Capacitance Tolerance: +/-20%; ComponentLink2Description: Datasheet; Published Date: October 2020; Packaging: Ammo Pack; Operating Temperature: -40 to +85degC; Mounting Technology: THT; Height: 11mm; Diameter: 6.3mm; ComponentLink2URL: https://www.we-online.com/catalog/datasheet/860010373009.pdf; ComponentLink1URL: http://www.we-online.de; ComponentLink1Description: Manufacturer; Capacitance: 180uF
footprint WCAP-ATG8_D6.3H11
pins: 1 P, 2 N

## 860010373010
designator C?, comment 220uF, 16V
WCAP-ATG8 Aluminum Electrolytic Capacitor, Radial, THT, D6.3xH11, 220uF, 16V; Manufacturer Part Number: 860010373010; Manufacturer: Wurth Elektronik; Ripple Current: 308mA; Rated Voltage: 16VDC; Technical Reference: ATBD110221M016DSPA4B000; Leakage Current: 35.2uA; Endurance: 2000h; Dissipation Factor: 16%; Capacitance Tolerance: +/-20%; ComponentLink2Description: Datasheet; Published Date: October 2020; Packaging: Ammo Pack; Operating Temperature: -40 to +85degC; Mounting Technology: THT; Height: 11mm; Diameter: 6.3mm; ComponentLink2URL: https://www.we-online.com/catalog/datasheet/860010373010.pdf; ComponentLink1URL: http://www.we-online.de; ComponentLink1Description: Manufacturer; Capacitance: 220uF
footprint WCAP-ATG8_D6.3H11
pins: 1 P, 2 N

## 860010374011
designator C?, comment 330uF, 16V
WCAP-ATG8 Aluminum Electrolytic Capacitor, Radial, THT, D8xH11.5, 330uF, 16V; Manufacturer Part Number: 860010374011; Manufacturer: Wurth Elektronik; Ripple Current: 407mA; Rated Voltage: 16VDC; Technical Reference: ATBE115331M016DSPA7B000; Leakage Current: 52.8uA; Endurance: 2000h; Dissipation Factor: 16%; Capacitance Tolerance: +/-20%; ComponentLink2Description: Datasheet; Published Date: October 2020; Packaging: Ammo Pack; Operating Temperature: -40 to +85degC; Mounting Technology: THT; Height: 11.5mm; Diameter: 8mm; ComponentLink2URL: https://www.we-online.com/catalog/datasheet/860010374011.pdf; ComponentLink1URL: http://www.we-online.de; ComponentLink1Description: Manufacturer; Capacitance: 330uF
footprint WCAP-ATG8_D8H11.5
pins: 1 P, 2 N

## 860010374012
designator C?, comment 470uF, 16V
WCAP-ATG8 Aluminum Electrolytic Capacitor, Radial, THT, D8xH11.5, 470uF, 16V; Manufacturer Part Number: 860010374012; Manufacturer: Wurth Elektronik; Ripple Current: 517mA; Rated Voltage: 16VDC; Technical Reference: ATBE115471M016DSPA7B000; Leakage Current: 75.2uA; Endurance: 2000h; Dissipation Factor: 16%; Capacitance Tolerance: +/-20%; ComponentLink2Description: Datasheet; Published Date: October 2020; Packaging: Ammo Pack; Operating Temperature: -40 to +85degC; Mounting Technology: THT; Height: 11.5mm; Diameter: 8mm; ComponentLink2URL: https://www.we-online.com/catalog/datasheet/860010374012.pdf; ComponentLink1URL: http://www.we-online.de; ComponentLink1Description: Manufacturer; Capacitance: 470uF
footprint WCAP-ATG8_D8H11.5
pins: 1 P, 2 N

## 860010374014
designator C?, comment 680uF, 16V
WCAP-ATG8 Aluminum Electrolytic Capacitor, Radial, THT, D8xH16, 680uF, 16V; Manufacturer Part Number: 860010374014; Manufacturer: Wurth Elektronik; Ripple Current: 640mA; Rated Voltage: 16VDC; Technical Reference: ATBE160681M016DSPA7B000; Leakage Current: 108.8uA; Endurance: 2000h; Dissipation Factor: 16%; Capacitance Tolerance: +/-20%; ComponentLink2Description: Datasheet; Published Date: October 2020; Packaging: Ammo Pack; Operating Temperature: -40 to +85degC; Mounting Technology: THT; Height: 16mm; Diameter: 8mm; ComponentLink2URL: https://www.we-online.com/catalog/datasheet/860010374014.pdf; ComponentLink1URL: http://www.we-online.de; ComponentLink1Description: Manufacturer; Capacitance: 680uF
footprint WCAP-ATG8_D8H16
pins: 1 P, 2 N

## 860010375013
designator C?, comment 560uF, 16V
WCAP-ATG8 Aluminum Electrolytic Capacitor, Radial, THT, D10xH12.5, 560uF, 16V; Manufacturer Part Number: 860010375013; Manufacturer: Wurth Elektronik; Ripple Current: 572mA; Rated Voltage: 16VDC; Technical Reference: ATBF125561M016DSPA9B000; Leakage Current: 89.6uA; Endurance: 2000h; Dissipation Factor: 16%; Capacitance Tolerance: +/-20%; ComponentLink2Description: Datasheet; Published Date: October 2020; Packaging: Ammo Pack; Operating Temperature: -40 to +85degC; Mounting Technology: THT; Height: 12.5mm; Diameter: 10mm; ComponentLink2URL: https://www.we-online.com/catalog/datasheet/860010375013.pdf; ComponentLink1URL: http://www.we-online.de; ComponentLink1Description: Manufacturer; Capacitance: 560uF
footprint WCAP-ATG8_D10H12.5
pins: 1 P, 2 N

## 860010375015
designator C?, comment 680uF, 16V
WCAP-ATG8 Aluminum Electrolytic Capacitor, Radial, THT, D10xH12.5, 680uF, 16V; Manufacturer Part Number: 860010375015; Manufacturer: Wurth Elektronik; Ripple Current: 682mA; Rated Voltage: 16VDC; Technical Reference: ATBF125681M016DSPA9B000; Leakage Current: 108.8uA; Endurance: 2000h; Dissipation Factor: 16%; Capacitance Tolerance: +/-20%; ComponentLink2Description: Datasheet; Published Date: October 2020; Packaging: Ammo Pack; Operating Temperature: -40 to +85degC; Mounting Technology: THT; Height: 12.5mm; Diameter: 10mm; ComponentLink2URL: https://www.we-online.com/catalog/datasheet/860010375015.pdf; ComponentLink1URL: http://www.we-online.de; ComponentLink1Description: Manufacturer; Capacitance: 680uF
footprint WCAP-ATG8_D10H12.5
pins: 1 P, 2 N

## 860010375016
designator C?, comment 820uF, 16V
WCAP-ATG8 Aluminum Electrolytic Capacitor, Radial, THT, D10xH16, 820uF, 16V; Manufacturer Part Number: 860010375016; Manufacturer: Wurth Elektronik; Ripple Current: 803mA; Rated Voltage: 16VDC; Technical Reference: ATBF160821M016DSPAAB000; Leakage Current: 131.2uA; Endurance: 2000h; Dissipation Factor: 16%; Capacitance Tolerance: +/-20%; ComponentLink2Description: Datasheet; Published Date: October 2020; Packaging: Ammo Pack; Operating Temperature: -40 to +85degC; Mounting Technology: THT; Height: 16mm; Diameter: 10mm; ComponentLink2URL: https://www.we-online.com/catalog/datasheet/860010375016.pdf; ComponentLink1URL: http://www.we-online.de; ComponentLink1Description: Manufacturer; Capacitance: 820uF
footprint WCAP-ATG8_D10H16
pins: 1 P, 2 N

## 860010375017
designator C?, comment 1000uF, 16V
WCAP-ATG8 Aluminum Electrolytic Capacitor, Radial, THT, D10xH16, 1000uF, 16V; Manufacturer Part Number: 860010375017; Manufacturer: Wurth Elektronik; Ripple Current: 869mA; Rated Voltage: 16VDC; Technical Reference: ATBF160102M016DSPAAB000; Leakage Current: 160uA; Endurance: 2000h; Dissipation Factor: 16%; Capacitance Tolerance: +/-20%; ComponentLink2Description: Datasheet; Published Date: October 2020; Packaging: Ammo Pack; Operating Temperature: -40 to +85degC; Mounting Technology: THT; Height: 16mm; Diameter: 10mm; ComponentLink2URL: https://www.we-online.com/catalog/datasheet/860010375017.pdf; ComponentLink1URL: http://www.we-online.de; ComponentLink1Description: Manufacturer; Capacitance: 1000uF
footprint WCAP-ATG8_D10H16
pins: 1 P, 2 N

## 860010375018
designator C?, comment 1200uF, 16V
WCAP-ATG8 Aluminum Electrolytic Capacitor, Radial, THT, D10xH16, 1200uF, 16V; Manufacturer Part Number: 860010375018; Manufacturer: Wurth Elektronik; Ripple Current: 979mA; Rated Voltage: 16VDC; Technical Reference: ATBF160122M016DSPAAB000; Leakage Current: 192uA; Endurance: 2000h; Dissipation Factor: 16%; Capacitance Tolerance: +/-20%; ComponentLink2Description: Datasheet; Published Date: October 2020; Packaging: Ammo Pack; Operating Temperature: -40 to +85degC; Mounting Technology: THT; Height: 16mm; Diameter: 10mm; ComponentLink2URL: https://www.we-online.com/catalog/datasheet/860010375018.pdf; ComponentLink1URL: http://www.we-online.de; ComponentLink1Description: Manufacturer; Capacitance: 1200uF
footprint WCAP-ATG8_D10H16
pins: 1 P, 2 N

## 860010375019
designator C?, comment 1500uF, 16V
WCAP-ATG8 Aluminum Electrolytic Capacitor, Radial, THT, D10xH20, 1500uF, 16V; Manufacturer Part Number: 860010375019; Manufacturer: Wurth Elektronik; Ripple Current: 1100mA; Rated Voltage: 16VDC; Technical Reference: ATBF200152M016DSPAAB000; Leakage Current: 240uA; Endurance: 2000h; Dissipation Factor: 16%; Capacitance Tolerance: +/-20%; ComponentLink2Description: Datasheet; Published Date: October 2020; Packaging: Ammo Pack; Operating Temperature: -40 to +85degC; Mounting Technology: THT; Height: 20mm; Diameter: 10mm; ComponentLink2URL: https://www.we-online.com/catalog/datasheet/860010375019.pdf; ComponentLink1URL: http://www.we-online.de; ComponentLink1Description: Manufacturer; Capacitance: 1500uF
footprint WCAP-ATG8_D10H20
pins: 1 P, 2 N

## 860010378020
designator C?, comment 1800uF, 16V
WCAP-ATG8 Aluminum Electrolytic Capacitor, Radial, THT, D13xH20, 1800uF, 16V; Manufacturer Part Number: 860010378020; Manufacturer: Wurth Elektronik; Ripple Current: 1298mA; Rated Voltage: 16VDC; Technical Reference: ATBI200182M016DSPACB000; Leakage Current: 288uA; Endurance: 2000h; Dissipation Factor: 16%; Capacitance Tolerance: +/-20%; ComponentLink2Description: Datasheet; Published Date: October 2020; Packaging: Ammo Pack; Operating Temperature: -40 to +85degC; Mounting Technology: THT; Height: 20mm; Diameter: 13mm; ComponentLink2URL: https://www.we-online.com/catalog/datasheet/860010378020.pdf; ComponentLink1URL: http://www.we-online.de; ComponentLink1Description: Manufacturer; Capacitance: 1800uF
footprint WCAP-ATG8_D13H20
pins: 1 P, 2 N

## 860010378021
designator C?, comment 2200uF, 16V
WCAP-ATG8 Aluminum Electrolytic Capacitor, Radial, THT, D13xH20, 2200uF, 16V; Manufacturer Part Number: 860010378021; Manufacturer: Wurth Elektronik; Ripple Current: 1485mA; Rated Voltage: 16VDC; Technical Reference: ATBI200222M016DSPACB000; Leakage Current: 352uA; Endurance: 2000h; Dissipation Factor: 16%; Capacitance Tolerance: +/-20%; ComponentLink2Description: Datasheet; Published Date: October 2020; Packaging: Ammo Pack; Operating Temperature: -40 to +85degC; Mounting Technology: THT; Height: 20mm; Diameter: 13mm; ComponentLink2URL: https://www.we-online.com/catalog/datasheet/860010378021.pdf; ComponentLink1URL: http://www.we-online.de; ComponentLink1Description: Manufacturer; Capacitance: 2200uF
footprint WCAP-ATG8_D13H20
pins: 1 P, 2 N

## 860010378022
designator C?, comment 2700uF, 16V
WCAP-ATG8 Aluminum Electrolytic Capacitor, Radial, THT, D13xH20, 2700uF, 16V; Manufacturer Part Number: 860010378022; Manufacturer: Wurth Elektronik; Ripple Current: 1716mA; Rated Voltage: 16VDC; Technical Reference: ATBI200272M016DSPACB000; Leakage Current: 432uA; Endurance: 2000h; Dissipation Factor: 16%; Capacitance Tolerance: +/-20%; ComponentLink2Description: Datasheet; Published Date: October 2020; Packaging: Ammo Pack; Operating Temperature: -40 to +85degC; Mounting Technology: THT; Height: 20mm; Diameter: 13mm; ComponentLink2URL: https://www.we-online.com/catalog/datasheet/860010378022.pdf; ComponentLink1URL: http://www.we-online.de; ComponentLink1Description: Manufacturer; Capacitance: 2700uF
footprint WCAP-ATG8_D13H20
pins: 1 P, 2 N

## 860010378023
designator C?, comment 3300uF, 16V
WCAP-ATG8 Aluminum Electrolytic Capacitor, Radial, THT, D13xH20, 3300uF, 16V; Manufacturer Part Number: 860010378023; Manufacturer: Wurth Elektronik; Ripple Current: 1750mA; Rated Voltage: 16VDC; Technical Reference: ATBI200332M016DSPACB000; Leakage Current: 528uA; Endurance: 2000h; Dissipation Factor: 16%; Capacitance Tolerance: +/-20%; ComponentLink2Description: Datasheet; Published Date: October 2020; Packaging: Ammo Pack; Operating Temperature: -40 to +85degC; Mounting Technology: THT; Height: 20mm; Diameter: 13mm; ComponentLink2URL: https://www.we-online.com/catalog/datasheet/860010378023.pdf; ComponentLink1URL: http://www.we-online.de; ComponentLink1Description: Manufacturer; Capacitance: 3300uF
footprint WCAP-ATG8_D13H20
pins: 1 P, 2 N

## 860010380024
designator C?, comment 3900uF, 16V
WCAP-ATG8 Aluminum Electrolytic Capacitor, Radial, THT, D16xH25, 3900uF, 16V; Manufacturer Part Number: 860010380024; Manufacturer: Wurth Elektronik; Ripple Current: 2002mA; Rated Voltage: 16VDC; Technical Reference: ATBK250392M016DSPAEB000; Leakage Current: 624uA; Endurance: 2000h; Dissipation Factor: 16%; Capacitance Tolerance: +/-20%; ComponentLink2Description: Datasheet; Published Date: October 2020; Packaging: Ammo Pack; Operating Temperature: -40 to +85degC; Mounting Technology: THT; Height: 25mm; Diameter: 16mm; ComponentLink2URL: https://www.we-online.com/catalog/datasheet/860010380024.pdf; ComponentLink1URL: http://www.we-online.de; ComponentLink1Description: Manufacturer; Capacitance: 3900uF
footprint WCAP-ATG8_D16H25
pins: 1 P, 2 N

## 860010380025
designator C?, comment 4700uF, 16V
WCAP-ATG8 Aluminum Electrolytic Capacitor, Radial, THT, D16xH25, 4700uF, 16V; Manufacturer Part Number: 860010380025; Manufacturer: Wurth Elektronik; Ripple Current: 2310mA; Rated Voltage: 16VDC; Technical Reference: ATBK250472M016DSPAEB000; Leakage Current: 752uA; Endurance: 2000h; Dissipation Factor: 16%; Capacitance Tolerance: +/-20%; ComponentLink2Description: Datasheet; Published Date: October 2020; Packaging: Ammo Pack; Operating Temperature: -40 to +85degC; Mounting Technology: THT; Height: 25mm; Diameter: 16mm; ComponentLink2URL: https://www.we-online.com/catalog/datasheet/860010380025.pdf; ComponentLink1URL: http://www.we-online.de; ComponentLink1Description: Manufacturer; Capacitance: 4700uF
footprint WCAP-ATG8_D16H25
pins: 1 P, 2 N

## 860010380026
designator C?, comment 5600uF, 16V
WCAP-ATG8 Aluminum Electrolytic Capacitor, Radial, THT, D16xH31.5, 5600uF, 16V; Manufacturer Part Number: 860010380026; Manufacturer: Wurth Elektronik; Ripple Current: 2453mA; Rated Voltage: 16VDC; Technical Reference: ATBK315562M016DSPADB000; Leakage Current: 896uA; Endurance: 2000h; Dissipation Factor: 16%; Capacitance Tolerance: +/-20%; ComponentLink2Description: Datasheet; Published Date: October 2020; Packaging: Ammo Pack; Operating Temperature: -40 to +85degC; Mounting Technology: THT; Height: 31.5mm; Diameter: 16mm; ComponentLink2URL: https://www.we-online.com/catalog/datasheet/860010380026.pdf; ComponentLink1URL: http://www.we-online.de; ComponentLink1Description: Manufacturer; Capacitance: 5600uF
footprint WCAP-ATG8_D16H31.5
pins: 1 P, 2 N

## 860010380027
designator C?, comment 6800uF, 16V
WCAP-ATG8 Aluminum Electrolytic Capacitor, Radial, THT, D16xH31.5, 6800uF, 16V; Manufacturer Part Number: 860010380027; Manufacturer: Wurth Elektronik; Ripple Current: 2805mA; Rated Voltage: 16VDC; Technical Reference: ATBK315682M016DSPADB000; Leakage Current: 1088uA; Endurance: 2000h; Dissipation Factor: 16%; Capacitance Tolerance: +/-20%; ComponentLink2Description: Datasheet; Published Date: October 2020; Packaging: Ammo Pack; Operating Temperature: -40 to +85degC; Mounting Technology: THT; Height: 31.5mm; Diameter: 16mm; ComponentLink2URL: https://www.we-online.com/catalog/datasheet/860010380027.pdf; ComponentLink1URL: http://www.we-online.de; ComponentLink1Description: Manufacturer; Capacitance: 6800uF
footprint WCAP-ATG8_D16H31.5
pins: 1 P, 2 N

## 860010380028
designator C?, comment 8200uF, 16V
WCAP-ATG8 Aluminum Electrolytic Capacitor, Radial, THT, D16xH35.5, 8200uF, 16V; Manufacturer Part Number: 860010380028; Manufacturer: Wurth Elektronik; Ripple Current: 2893mA; Rated Voltage: 16VDC; Technical Reference: ATBK355822M016DSPADB000; Leakage Current: 1312uA; Endurance: 2000h; Dissipation Factor: 16%; Capacitance Tolerance: +/-20%; ComponentLink2Description: Datasheet; Published Date: October 2020; Packaging: Ammo Pack; Operating Temperature: -40 to +85degC; Mounting Technology: THT; Height: 35.5mm; Diameter: 16mm; ComponentLink2URL: https://www.we-online.com/catalog/datasheet/860010380028.pdf; ComponentLink1URL: http://www.we-online.de; ComponentLink1Description: Manufacturer; Capacitance: 8200uF
footprint WCAP-ATG8_D16H35.5
pins: 1 P, 2 N